# Altium footprint library SOD-923.PcbLib: 1 footprints
Each footprint in its own frame and in the unit in brackets; x right, y up, seen from the top. Pads: shape width x height; smd on the part's side, far side on the other; paste and mask are expansions set on the pad; w line width, h text height; cw(c..) or ccw(c..) is an arc to the next point about the centre after c.
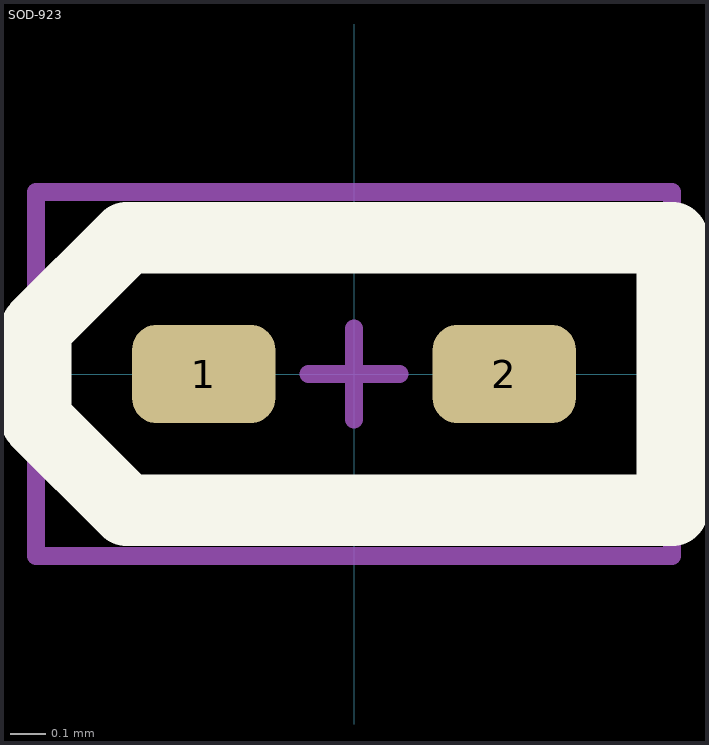
[diagram p0: the footprint, top view; thin cyan lines are the x and y axes]

## SOD-923 [mm]
pads (2):
  rrect50% 0.4x0.275 smd: 1(-0.42,0) 2(0.42,0)
Top Overlay:
  lines w0.2: -0.889,-0.127 -0.635,-0.381 0.889,-0.381 0.889,0.381 -0.635,0.381 -0.889,0.127 -0.889,-0.127
Mechanical 15:
  lines w0.05: -0.127,0 0.127,0 ; 0,-0.127 0,0.127 ; -0.889,-0.508 0.889,-0.508 0.889,0.508 -0.889,0.508 -0.889,-0.508
3D body "User Library-DIODE_SOD-923.step": height 0.43, standoff 0, extent -0.525,-0.325 0.525,0.325